# Altium schematic symbol library GCMLibreriasSCH.SCHLIB: 48 symbols
Pins are listed as number, name and electrical type; pins without a type are passive.

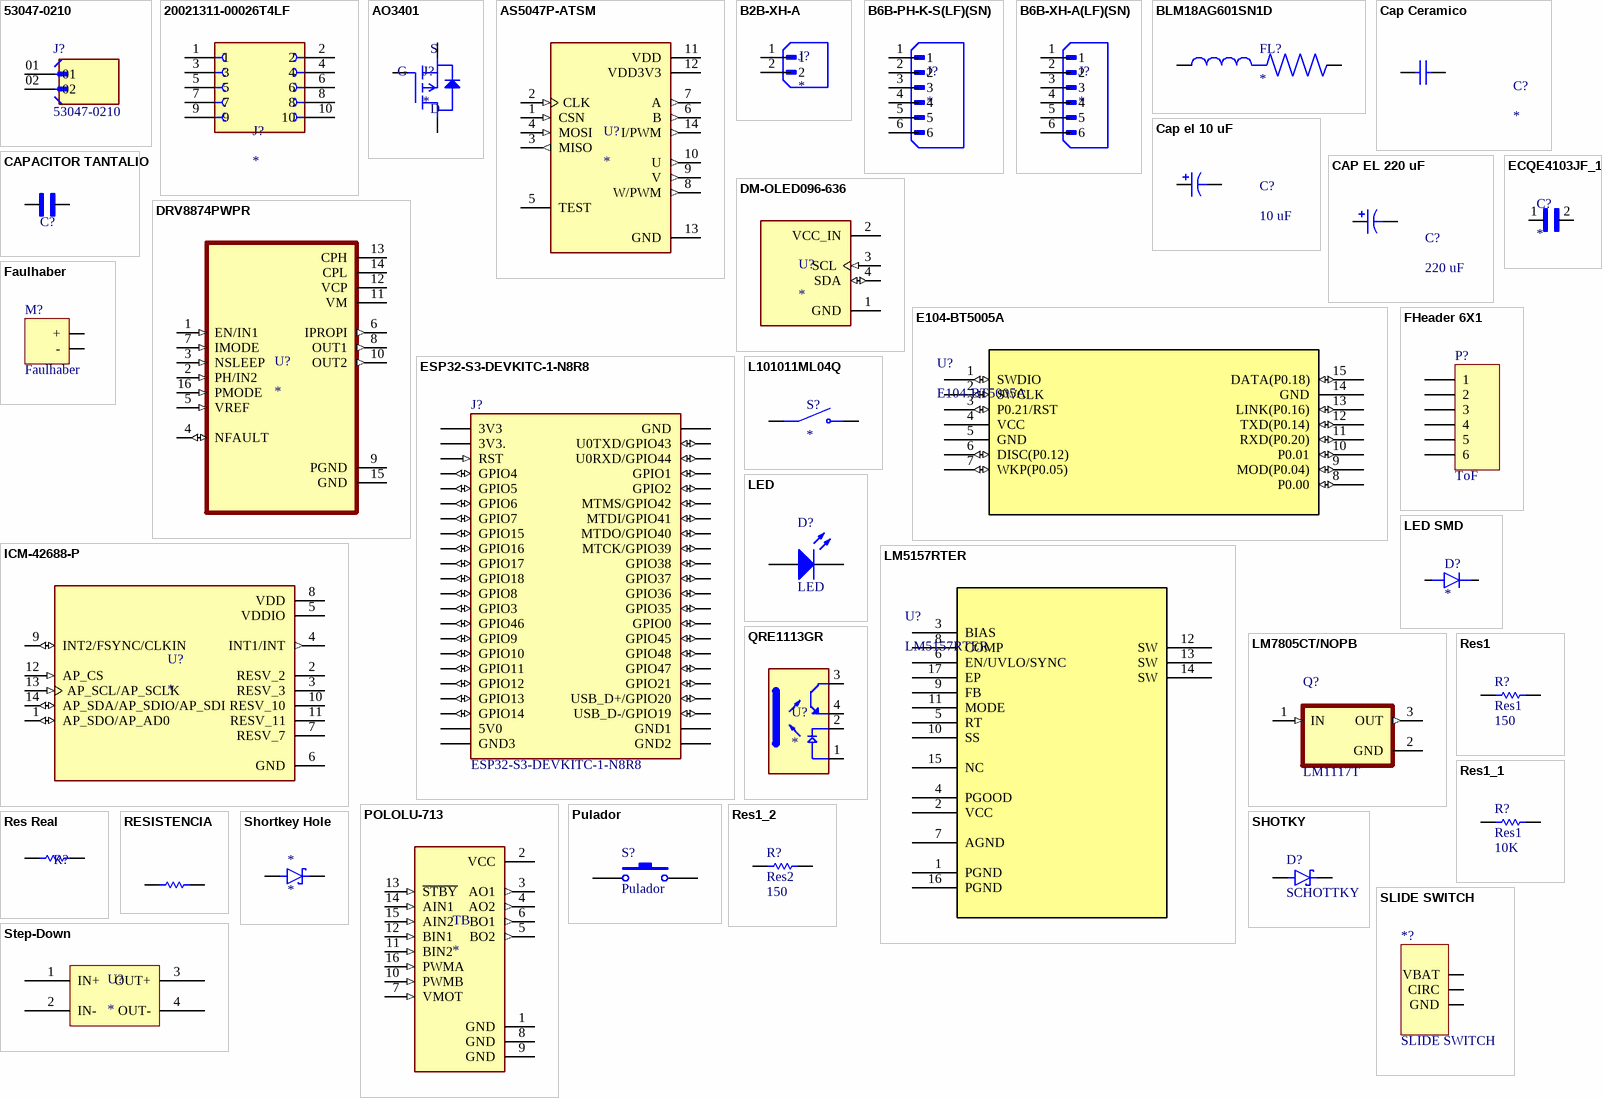
[diagram p0: symbols 53047-0210 to Step-Down]

## 53047-0210
designator J?
.049 pitch picoblade wire to board header, vt 2 circuits | Molex Incorporated 53047-0210; SnapEDA_Link: https://www.snapeda.com/parts/53047-0210/Molex/view-part/?ref=snap; Package: None; Value: *; MF: Molex; MP: 53047-0210; Check_prices: https://www.snapeda.com/parts/53047-0210/Molex/view-part/?ref=eda
footprint MOLEX_53047-0210
pins: 01, 02

## 20021311-00026T4LF
designator J?
MF: Amphenol ICC; MP: 20021311-00026T4LF; Package: None; Price: None; Value: *; Availability: Unavailable
footprint AMPHENOL_20021311-00026T4LF
pins: 1, 2, 3, 4, 5, 6, 7, 8, 9, 10

## AO3401
designator J?
P-Channel 30 V 4A (Ta) 1.4W (Ta) Surface Mount SOT-23-3; MF: Alpha & Omega Semiconductor; MP: AO3401; SnapEDA_Link: https://www.snapeda.com/parts/AO3401/Alpha/view-part/?ref=snap; Package: SOT-23-3 Alpha &amp; Omega Semiconductor; Value: *; Check_prices: https://www.snapeda.com/parts/AO3401/Alpha/view-part/?ref=eda
footprint SOT23
pins: 1 G, 2 S, 3 D

## AS5047P-ATSM
designator U?
Rotary Encoder Magnetic Programmable PWM -; MF: ams; MP: AS5047P-ATSM; SnapEDA_Link: https://www.snapeda.com/parts/AS5047P-ATSM/ams/view-part/?ref=snap; Package: TSSOP-14 ams; Value: *; Check_prices: https://www.snapeda.com/parts/AS5047P-ATSM/ams/view-part/?ref=eda
footprint SOP65P640X120-14N
pins: 1 CSN (in), 2 CLK (in), 3 MISO (out), 4 MOSI (in), 5 TEST, 6 B (out), 7 A (out), 8 W/PWM (out), 9 V (out), 10 U (out), 11 VDD (power), 12 VDD3V3 (power), 13 GND (power), 14 I/PWM (out)

## B2B-XH-A
designator J?
MF: {'manufacturer': u'JST Sales America Inc.'}; MP: B2B-XH-A; Package: None; Price: None; Value: *; Availability: Unavailable
footprint JST_B2B-XH-A
pins: 1, 2

## B6B-PH-K-S(LF)(SN)
designator J?
MF: {'manufacturer': u'JST Sales America Inc.'}; MP: B6B-PH-K-S(LF)(SN); Package: None; Price: None; Value: *; Availability: Unavailable; LCSC Part Number: C131342
footprint JST_B6B-PH-K-S(LF)(SN)
pins: 1, 2, 3, 4, 5, 6

## B6B-XH-A(LF)(SN)
designator J?
Connector Header Through Hole 6 position 0.098 (2.50mm); MF: JST Sales; MP: B6B-XH-A(LF)(SN); SnapEDA_Link: https://www.snapeda.com/parts/B6B-XH-A(LF)(SN)/JST+Sales+America+Inc./view-part/?ref=snap; Package: None; Value: *; Check_prices: https://www.snapeda.com/parts/B6B-XH-A(LF)(SN)/JST+Sales+America+Inc./view-part/?ref=eda
footprint JST_B6B-XH-A(LF)(SN)
pins: 1, 2, 3, 4, 5, 6

## BLM18AG601SN1D
designator FL?
600 Ohms @ 100 MHz 1 - Ferrite Bead 0603 (1608 Metric) 500mA 380mOhm; MF: Murata; MP: BLM18AG601SN1D; Check_prices: https://www.snapeda.com/parts/BLM18AG601SN1D/Murata/view-part/?ref=eda; SnapEDA_Link: https://www.snapeda.com/parts/BLM18AG601SN1D/Murata/view-part/?ref=snap; Availability: In Stock; Value: *; Price: None; Package: 1608 Murata; Purchase-URL: https://pricing.snapeda.com/search/part/BLM18AG601SN1D/?ref=eda
footprint BEADC1608X95N
pins: 1, 2

## Cap Ceramico
designator C?
footprint Cap Ceramico
pins: 1, 2

## Cap el 10 uF
designator C?, comment 10 uF
footprint Cap El 10uF
pins: 1, 2

## CAP EL 220 uF
designator C?, comment 220 uF
footprint Cap El 220 uF
pins: 1, 2

## CAPACITOR TANTALIO
designator C?  (value not drawn)
0805; MP: GRM035R60J475ME15D; MF: Murata; Value: *; DigiKey-Purchase-URL: https://snapeda.com/shop?store=DigiKey&id=1181520; Package: 0603 Murata; SnapEDA_Link: https://www.snapeda.com/parts/GRM035R60J475ME15D/Murata%20Electronics%20North%20America/view-part/1181520/?ref=snap; Mouser-Purchase-URL: https://snapeda.com/shop?store=Mouser&id=1181520; Digi-Key_Part_Number: 490-13230-1-ND
footprint CAPACITOR TANTALIO (0805)
pins: 1, 2

## DM-OLED096-636
designator U?
0.96â€ 128 X 64 MONOCHROME GRAPHIC OLED DISPLAY MODULE - I2C; MP: DM-OLED096-636; SnapEDA_Link: https://www.snapeda.com/parts/DM-OLED096-636/Display+Module/view-part/?ref=snap; Package: Package; Value: *; MF: Display Module; Check_prices: https://www.snapeda.com/parts/DM-OLED096-636/Display+Module/view-part/?ref=eda
footprint MODULE_DM-OLED096-636
pins: 1 GND (power), 2 VCC_IN (power), 3 SCL (in), 4 SDA (io)

## DRV8874PWPR
designator U?
40-V, 6-A H-bridge motor driver with integrated current sensing feedback; MF: Texas Instruments; MP: DRV8874PWPR; SnapEDA_Link: https://www.snapeda.com/parts/DRV8874PWPR/Texas+Instruments/view-part/?ref=snap; Package: HTSSOP-16 Texas Instruments; Value: *; Check_prices: https://www.snapeda.com/parts/DRV8874PWPR/Texas+Instruments/view-part/?ref=eda
footprint SOP65P640X120-17N
pins: 1 EN/IN1 (in), 2 PH/IN2 (in), 3 NSLEEP (in), 4 NFAULT (io), 5 VREF (in), 6 IPROPI (out), 7 IMODE (in), 8 OUT1 (out), 9 PGND (power), 10 OUT2 (out), 11 VM (power), 12 VCP (power), 13 CPH (power), 14 CPL (power), 15 GND (power), 16 PMODE (in)

## E104-BT5005A
designator U?
No Description Available; Manufacturer_Name: Chengdu Ebyte Elec Tech; Type: RF; Copyright: Copyright (C) 2026 Ultra Librarian. All rights reserved.; Manufacturer_Part_Number: E104-BT5005A; RefDes: RefDes
footprint MOD15_E104-BT5005A_BYT
pins: 1 SWDIO (io), 2 SWCLK (io), 3 P0.21/RST (io), 4 VCC (power), 5 GND (power), 6 DISC(P0.12) (io), 7 WKP(P0.05) (io), 8 P0.00 (io), 9 MOD(P0.04) (io), 10 P0.01 (io), 11 RXD(P0.20) (io), 12 TXD(P0.14) (io), 13 LINK(P0.16) (io), 14 GND (power), 15 DATA(P0.18) (io)

## ECQE4103JF_1
designator C?
MP: ECQE4103JF; Availability: Unavailable; Package: None; Value: *; Price: None
footprint CAPRR750W60L1030T430H740
pins: 1, 2

## ESP32-S3-DEVKITC-1-N8R8
designator J?
The ESP32-S3-DEVKITC-1-N8R8 from Espressif Systems is a development board designed for RF, RFID, and wireless applications. It supports 802.11 b/g/n Wi-Fi and BluetoothÂ® 5.x (BLE) connectivity at 2.4GHz, making it ideal for IoT and wireless communication; SnapEDA_Link: https://www.snapeda.com/parts/ESP32-S3-DEVKITC-1-N8R8/Espressif+Systems/view-part/?ref=snap; Package: None; Value: *; MF: Espressif Systems; MP: ESP32-S3-DEVKITC-1-N8R8; Check_prices: https://www.snapeda.com/parts/ESP32-S3-DEVKITC-1-N8R8/Espressif+Systems/view-part/?ref=eda
footprint ESP32-S3-DEVKITC-1-N8R8
pins: J1_1 3V3 (power), J1_2 3V3. (power), J1_3 RST (in), J1_4 GPIO4 (io), J1_5 GPIO5 (io), J1_6 GPIO6 (io), J1_7 GPIO7 (io), J1_8 GPIO15 (io), J1_9 GPIO16 (io), J1_10 GPIO17 (io), J1_11 GPIO18 (io), J1_12 GPIO8 (io), J1_13 GPIO3 (io), J1_14 GPIO46 (io), J1_15 GPIO9 (io), J1_16 GPIO10 (io), J1_17 GPIO11 (io), J1_18 GPIO12 (io), J1_19 GPIO13 (io), J1_20 GPIO14 (io), J1_21 5V0 (power), J1_22 GND3 (power), J3_1 GND (power), J3_2 U0TXD/GPIO43 (io), J3_3 U0RXD/GPIO44 (io), J3_4 GPIO1 (io), J3_5 GPIO2 (io), J3_6 MTMS/GPIO42 (io), J3_7 MTDI/GPIO41 (io), J3_8 MTDO/GPIO40 (io), J3_9 MTCK/GPIO39 (io), J3_10 GPIO38 (io), J3_11 GPIO37 (io), J3_12 GPIO36 (io), J3_13 GPIO35 (io), J3_14 GPIO0 (io), J3_15 GPIO45 (io), J3_16 GPIO48 (io), J3_17 GPIO47 (io), J3_18 GPIO21 (io), J3_19 USB_D+/GPIO20 (io), J3_20 USB_D-/GPIO19 (io), J3_21 GND1 (power), J3_22 GND2 (power)

## Faulhaber
designator M?
LatestRevisionDate: 17-Jul-2002; LatestRevisionNote: Re-released for DXP Platform.; Publisher: Altium Limited
footprint MOTOR
pins: 1 +, 2 -

## FHeader 6X1
designator P?, comment ToF
LatestRevisionDate: 17-Jul-2002; LatestRevisionNote: Re-released for DXP Platform.; Publisher: Altium Limited
footprint FHDR1X6
pins: 1, 2, 3, 4, 5, 6

## ICM-42688-P
designator U?
Accelerometer, Gyroscope, 6 Axis Sensor Output; MP: ICM-42688-P; Package: None; Value: *; Availability: Unavailable; Price: None
footprint PQFN50P300X250X97-14N
pins: 1 AP_SDO/AP_AD0 (io), 2 RESV_2, 3 RESV_3, 4 INT1/INT (out), 5 VDDIO (power), 6 GND (power), 7 RESV_7, 8 VDD (power), 9 INT2/FSYNC/CLKIN (io), 10 RESV_10, 11 RESV_11, 12 AP_CS (in), 13 AP_SCL/AP_SCLK (in), 14 AP_SDA/AP_SDIO/AP_SDI (io)

## L101011ML04Q
designator S?
Switch Slide ON OFF SPST Side Slide 4A 250VAC 125VDC PC Pins Thru-Hole Bulk; MF: C&K; MP: L101011ML04Q; SnapEDA_Link: https://www.snapeda.com/parts/L101011ML04Q/C%2526K/view-part/?ref=snap; Package: None; Value: *; Check_prices: https://www.snapeda.com/parts/L101011ML04Q/C%2526K/view-part/?ref=eda
footprint SW_L101011ML04Q
pins: 1 COM, 2 NO

## LED
designator D?
Published: 8-Jun-2000; LatestRevisionDate: 08-Jul-2005; LatestRevisionNote: Mech Layer 1 removed.; PackageReference: LED-0; Publisher: Altium Limited; PackageDescription: LED; 2 Leads
footprint LED
pins: 0 A, 1 K

## LED SMD
designator D?
0805; MP: 597-5311-402F; Package: None; Price: None; Value: *; Availability: Unavailable
footprint LED SMD (0805)
pins: A, C

## LM5157RTER
designator U?
6A/4A, 50-V, 2.2-MHz wide VIN boost, flyback, & SEPIC converter with dual random spread spectrum 16-WQFN -40 to 125; Manufacturer_Name: Texas Instruments; Copyright: Copyright (C) 2026 Ultra Librarian. All rights reserved.; Manufacturer_Part_Number: LM5157RTER; RefDes: RefDes; Type: Type
footprint QFN_57RTER_TEX
pins: 1 PGND (power), 2 VCC (power), 3 BIAS, 4 PGOOD (power), 5 RT, 6 EN/UVLO/SYNC, 7 AGND (power), 8 COMP, 9 FB, 10 SS, 11 MODE, 12 SW, 13 SW, 14 SW, 15 NC, 16 PGND (power), 17 EP

## LM7805CT/NOPB
designator Q?, comment LM1117T
MF: ON Semiconductor; MP: LM7805CT; Purchase-URL: https://pricing.snapeda.com/search/part/LM7805CT/?ref=eda; Check_prices: https://www.snapeda.com/parts/LM7805CT/Onsemi/view-part/?ref=eda; SnapEDA_Link: https://www.snapeda.com/parts/LM7805CT/Onsemi/view-part/?ref=snap; Price: None; Availability: In Stock; Package: TO-220-3 ON Semiconductor; Value: *
footprint TO254P1054X470X2600-3
pins: 1 IN (in), 2 GND (power), 3 OUT (out)

## POLOLU-713
designator TB
DC-motor driver; IC: TB6612FNG; 100kHz; 1A; Uin mot: 4.5; MF: Pololu; MP: POLOLU-713; SnapEDA_Link: https://www.snapeda.com/parts/POLOLU-713/Pololu/view-part/53073/?ref=snap; Price: None; Value: *; Availability: Unavailable; Package: None
footprint SHIELD_POLOLU-713
pins: 1 GND (power), 2 VCC (power), 3 AO1 (out), 4 AO2 (out), 5 BO2 (out), 6 BO1 (out), 7 VMOT (in), 8 GND (power), 9 GND (power), 10 PWMB (in), 11 BIN2 (in), 12 BIN1 (in), 13 ~{STBY} (in), 14 AIN1 (in), 15 AIN2 (in), 16 PWMA (in)

## Pulador
designator S?
footprint Pulsador
pins: 1, 2

## QRE1113GR
designator U?
Reflective Optical Sensor 0.039 (1mm) 4-SMD, Gull Wing; MF: ON Semiconductor; MP: QRE1113GR; Package: ARUSM-313-4 ON Semiconductor; Price: None; Check_prices: https://www.snapeda.com/parts/QRE1113GR/Onsemi/view-part/?ref=eda; Value: *; SnapEDA_Link: https://www.snapeda.com/parts/QRE1113GR/Onsemi/view-part/?ref=snap; Availability: In Stock; Purchase-URL: https://pricing.snapeda.com/search/part/QRE1113GR/?ref=eda
footprint SOIC180P460X187-4N
pins: 1 A, 2 C, 3 CT, 4 ET

## Res1
designator R?  value 150
Resistor; Published: 8-Jun-2000; LatestRevisionDate: 17-Jul-2002; LatestRevisionNote: Re-released for DXP Platform.; PackageReference: AXIAL-0.3; Publisher: Altium Limited; PackageDescription: Axial Device, Thru-Hole; 2 Leads; 0.3 in Pin Spacing
simulation model RESISTOR (Resistor)
signal-integrity model Res
footprint Res1
pins: 1, 2

## Res1_1
designator R?, comment Res1  value 10K
Resistor; Published: 8-Jun-2000; LatestRevisionDate: 17-Jul-2002; LatestRevisionNote: Re-released for DXP Platform.; PackageReference: AXIAL-0.3; Publisher: Altium Limited; PackageDescription: Axial Device, Thru-Hole; 2 Leads; 0.3 in Pin Spacing
simulation model RESISTOR (Resistor)
signal-integrity model Res
footprint Res1
pins: 1, 2

## Res1_2
designator R?, comment Res2  value 150
Resistor; Published: 8-Jun-2000; LatestRevisionDate: 17-Jul-2002; LatestRevisionNote: Re-released for DXP Platform.; PackageReference: AXIAL-0.3; Publisher: Altium Limited; PackageDescription: Axial Device, Thru-Hole; 2 Leads; 0.3 in Pin Spacing
simulation model RESISTOR (Resistor)
signal-integrity model Res
footprint Res1
pins: 1, 2

## Res Real
designator R?
Resistor; Published: 8-Jun-2000; LatestRevisionDate: 17-Jul-2002; LatestRevisionNote: Re-released for DXP Platform.; PackageReference: AXIAL-0.3; Publisher: Altium Limited; PackageDescription: Axial Device, Thru-Hole; 2 Leads; 0.3 in Pin Spacing
footprint Res_0.25W
pins: 1, 2

## RESISTENCIA
designator ?
0805; Value: 3KΩ; Published: 8-Jun-2000; LatestRevisionDate: 17-Jul-2002; LatestRevisionNote: Re-released for DXP Platform.; PackageReference: AXIAL-0.3; Publisher: Altium Limited; PackageDescription: Axial Device, Thru-Hole; 2 Leads; 0.3 in Pin Spacing
footprint RESISTENCIA SMD (0805)
pins: 1, 2

## Shortkey Hole
designator *
footprint Shortky Hole (Diode, Axial; Body 5.2 x 2.7 mm (LxDia. max), Lead Dia. 0.86 mm (max))
pins: 1 A, 2 K

## SHOTKY
designator D?, comment SCHOTTKY
1A, 40V, Schottky Rectifier; MF: Taiwan Semiconductor; MP: SS14; SnapEDA_Link: https://www.snapeda.com/parts/SS14/taiwan/view-part/?ref=snap; Package: SMA-2 Taiwan Semiconductor; Value: *; Check_prices: https://www.snapeda.com/parts/SS14/taiwan/view-part/?ref=eda
footprint SHOTKY (SMD)
pins: A, K

## SLIDE SWITCH
designator *?
footprint Slide Switch
pins: 0 VBAT, 1 CIRC, 2 GND

## Step-Down
designator U?  (no BOM)
footprint Step-Down
pins: 1 IN+, 2 IN-, 3 OUT+, 4 OUT-

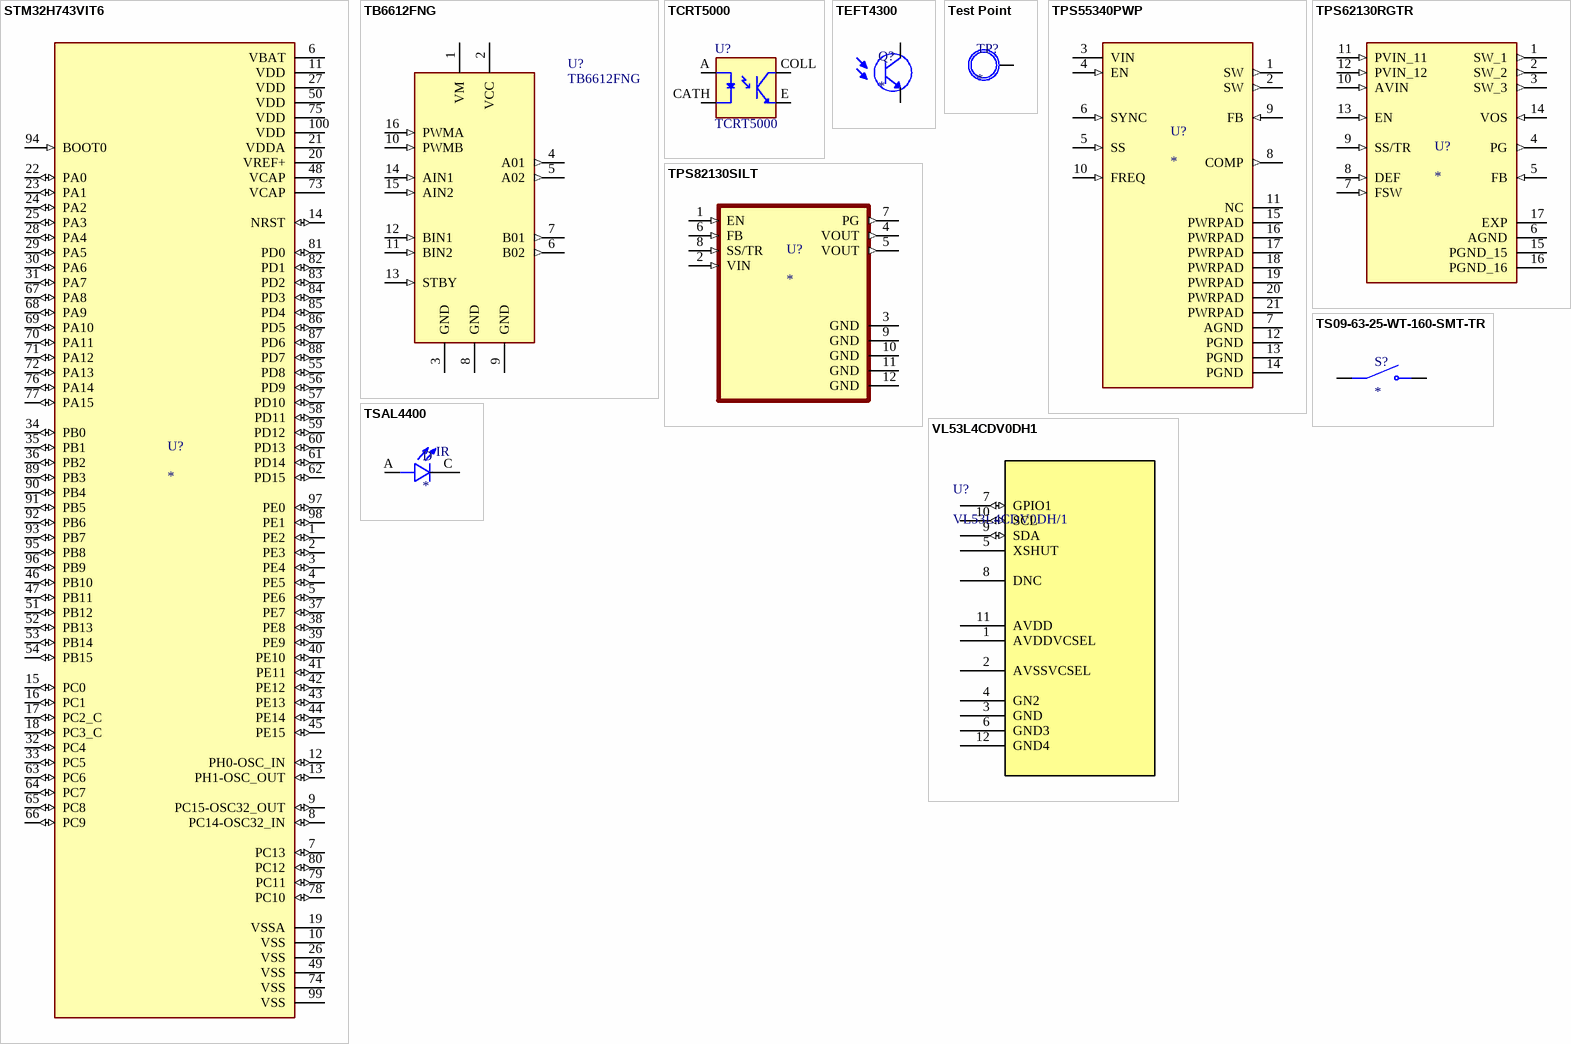
[diagram p1: symbols STM32H743VIT6 to VL53L4CDV0DH1]

## STM32H743VIT6
designator U?
ARMÂ® CortexÂ®-M7 STM32H7 Microcontroller IC 32-Bit Single-Core 480MHz 2MB (2M x 8) FLASH 100-LQFP (14x14); MF: STMicroelectronics; MP: STM32H743VIT6; SnapEDA_Link: https://www.snapeda.com/parts/STM32H743VIT6/STMicroelectronics/view-part/?ref=snap; Package: LQFP-100 STMicroelectronics; Value: *; Check_prices: https://www.snapeda.com/parts/STM32H743VIT6/STMicroelectronics/view-part/?ref=eda
footprint QFP50P1600X1600X160-100N
pins: 1 PE2 (io), 2 PE3 (io), 3 PE4 (io), 4 PE5 (io), 5 PE6 (io), 6 VBAT (power), 7 PC13 (io), 8 PC14-OSC32_IN (io), 9 PC15-OSC32_OUT (io), 10 VSS (power), 11 VDD (power), 12 PH0-OSC_IN (io), 13 PH1-OSC_OUT (io), 14 NRST (io), 15 PC0 (io), 16 PC1 (io), 17 PC2_C (io), 18 PC3_C (io), 19 VSSA (power), 20 VREF+ (power), 21 VDDA (power), 22 PA0 (io), 23 PA1 (io), 24 PA2 (io), 25 PA3 (io), 26 VSS (power), 27 VDD (power), 28 PA4 (io), 29 PA5 (io), 30 PA6 (io), 31 PA7 (io), 32 PC4 (io), 33 PC5 (io), 34 PB0 (io), 35 PB1 (io), 36 PB2 (io), 37 PE7 (io), 38 PE8 (io), 39 PE9 (io), 40 PE10 (io), 41 PE11 (io), 42 PE12 (io), 43 PE13 (io), 44 PE14 (io), 45 PE15 (io), 46 PB10 (io), 47 PB11 (io), 48 VCAP (power), 49 VSS (power), 50 VDD (power), 51 PB12 (io), 52 PB13 (io), 53 PB14 (io), 54 PB15 (io), 55 PD8 (io), 56 PD9 (io), 57 PD10 (io), 58 PD11 (io), 59 PD12 (io), 60 PD13 (io), 61 PD14 (io), 62 PD15 (io), 63 PC6 (io), 64 PC7 (io), 65 PC8 (io), 66 PC9 (io), 67 PA8 (io), 68 PA9 (io), 69 PA10 (io), 70 PA11 (io), 71 PA12 (io), 72 PA13 (io), 73 VCAP (power), 74 VSS (power), 75 VDD (power), 76 PA14 (io), 77 PA15 (io), 78 PC10 (io), 79 PC11 (io), 80 PC12 (io), 81 PD0 (io), 82 PD1 (io), 83 PD2 (io), 84 PD3 (io), 85 PD4 (io), 86 PD5 (io), 87 PD6 (io), 88 PD7 (io), 89 PB3 (io), 90 PB4 (io), 91 PB5 (io), 92 PB6 (io), 93 PB7 (io), 94 BOOT0 (in), 95 PB8 (io), 96 PB9 (io), 97 PE0 (io), 98 PE1 (io), 99 VSS (power), 100 VDD (power)

## TB6612FNG
designator U?
TB6612FNG Dual Motor Driver Module; ComponentLink1Description: Data Sheet; ComponentLink1URL: https://www.pololu.com/file/0J86/TB6612FNG.pdf
footprint TB6612FNG
pins: 1 VM (power), 2 VCC (power), 3 GND (power), 4 A01 (out), 5 A02 (out), 6 B02 (out), 7 B01 (out), 8 GND (power), 9 GND (power), 10 PWMB (in), 11 BIN2 (in), 12 BIN1 (in), 13 STBY (in), 14 AIN1 (in), 15 AIN2 (in), 16 PWMA (in)

## TCRT5000
designator U?
950 nm 60 mA Through Hole Reflective Optical Sensor with Transistor Output; Availability: Unavailable; MP: TCRT5000; Value: *; Price: None; Package: None
footprint OPTO_TCRT5000
pins: A, CATH, COLL, E

## TEFT4300
designator Q?
Phototransistors 925nm Top View Radial, 3mm Dia (T-1); MF: Vishay Semiconductor; MP: TEFT4300; SnapEDA_Link: https://www.snapeda.com/parts/TEFT4300/Vishay/view-part/?ref=snap; Package: None; Value: *; Check_prices: https://www.snapeda.com/parts/TEFT4300/Vishay/view-part/?ref=eda
footprint XDCR_TEFT4300
pins: C, E

## Test Point
designator TP?  (no BOM)
footprint TestPoint
pins: 1

## TPS55340PWP
designator U?
Integrated, 5-A 40-V Wide Input Range Boost/SEPIC/Flyback DC-DC Regulator 14-HTSSOP -40 to 150; MF: Texas Instruments; MP: TPS55340PWP; Check_prices: https://www.snapeda.com/parts/TPS55340PWP/Texas+Instruments/view-part/?ref=eda; Price: None; SnapEDA_Link: https://www.snapeda.com/parts/TPS55340PWP/Texas+Instruments/view-part/?ref=snap; Value: *; Availability: In Stock; Package: HTSSOP-14 Texas Instruments; Purchase-URL: https://pricing.snapeda.com/search/part/TPS55340PWP/?ref=eda
footprint IC_TPS55340PWP
pins: 1 SW (out), 2 SW (out), 3 VIN (power), 4 EN (in), 5 SS (in), 6 SYNC (in), 7 AGND (power), 8 COMP (out), 9 FB (in), 10 FREQ (in), 11 NC (power), 12 PGND (power), 13 PGND (power), 14 PGND (power), 15 PWRPAD (power), 16 PWRPAD (power), 17 PWRPAD (power), 18 PWRPAD (power), 19 PWRPAD (power), 20 PWRPAD (power), 21 PWRPAD (power)

## TPS62130RGTR
designator U?
3-17V 3A Step-Down Converter with DCS-Control in 3x3 QFN Package; MF: Texas Instruments; MP: TPS62130RGTR; SnapEDA_Link: https://www.snapeda.com/parts/TPS62130RGTR/Texas+Instruments/view-part/?ref=snap; Package: VQFN-16 Texas Instruments; Value: *; Check_prices: https://www.snapeda.com/parts/TPS62130RGTR/Texas+Instruments/view-part/?ref=eda
footprint QFN50P300X300X100-17N
pins: 1 SW_1 (out), 2 SW_2 (out), 3 SW_3 (out), 4 PG (out), 5 FB (in), 6 AGND (power), 7 FSW (in), 8 DEF (in), 9 SS/TR (in), 10 AVIN (in), 11 PVIN_11 (in), 12 PVIN_12 (in), 13 EN (in), 14 VOS (in), 15 PGND_15 (power), 16 PGND_16 (power), 17 EXP (power)

## TPS82130SILT
designator U?
Non-Isolated PoL Module DC DC Converter 1 Output 0.9 ~ 5V - - - 3A 3V - 17V Input; MF: Texas Instruments; MP: TPS82130SIL; SnapEDA_Link: https://www.snapeda.com/parts/TPS82130SIL/Texas+Instruments/view-part/?ref=snap; Package: None; Value: *; Check_prices: https://www.snapeda.com/parts/TPS82130SIL/Texas+Instruments/view-part/?ref=eda
footprint CONV_TPS82140SILR
pins: 1 EN (in), 2 VIN (in), 3 GND (power), 4 VOUT (out), 5 VOUT (out), 6 FB (in), 7 PG (out), 8 SS/TR (in), 9 GND (power), 10 GND (power), 11 GND (power), 12 GND (power)

## TS09-63-25-WT-160-SMT-TR
designator S?
6.1 x 3.7 mm, 2.5 mm Actuator Height, 160 gf, White, Surface Mount, SPST, Tactile Switch; MF: Same Sky; MP: TS09-63-25-WT-160-SMT-TR; SnapEDA_Link: https://www.snapeda.com/parts/TS09-63-25-WT-160-SMT-TR/Same+Sky/view-part/?ref=snap; Package: None; Value: *; Check_prices: https://www.snapeda.com/parts/TS09-63-25-WT-160-SMT-TR/Same+Sky/view-part/?ref=eda
footprint SW_TS09-63-25-WT-160-SMT-TR
pins: 1, 2

## TSAL4400
designator D
Infrared Emitter 940nm 36mW/sr Circular Top Mount 2-Pin T-1 Bulk; MF: Vishay Semiconductor; MP: TSAL4400; Package: Radial Vishay; Price: None; SnapEDA_Link: https://www.snapeda.com/parts/TSAL4400/Vishay%20Semiconductor%20Opto%20Division/view-part/3623381/?ref=snap; Value: *; Availability: Unavailable
footprint LEDRD254W45D335H610
pins: A, C
text: IR

## VL53L4CDV0DH1
designator U?, comment VL53L4CDV0DH/1
Time-of-Flight (ToF) high accuracy low power proximity sensor; Manufacturer_Name: STMicroelectronics; Copyright: Copyright (C) 2025 Ultra Librarian. All rights reserved.; Manufacturer_Part_Number: VL53L4CDV0DH/1; RefDes: RefDes; Type: Type
footprint LGA12_STM
pins: 1 AVDDVCSEL (power), 2 AVSSVCSEL (power), 3 GND (power), 4 GN2 (power), 5 XSHUT, 6 GND3 (power), 7 GPIO1 (io), 8 DNC, 9 SDA (io), 10 SCL (io), 11 AVDD (power), 12 GND4 (power)